# Altium integrated library MLP2012S2R2MT0S1.IntLib: 1 symbol
Pins are listed as number, name and electrical type; pins without a type are passive.

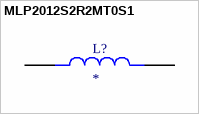
[diagram p0: symbol MLP2012S2R2MT0S1]

## MLP2012S2R2MT0S1
designator L?
2.2 ÂµH Shielded Multilayer Inductor 800 mA 299mOhm Max 0805 (2012 Metric); MF: TDK; MP: MLP2012S2R2MT0S1; SnapEDA_Link: https://www.snapeda.com/parts/MLP2012S2R2MT0S1/TDK/view-part/?ref=snap; Package: 2012 TDK; Value: *; Check_prices: https://www.snapeda.com/parts/MLP2012S2R2MT0S1/TDK/view-part/?ref=eda
footprint INDC2012X100N
pins: 1, 2